# Altium footprint library 8ch_RGB_Controller.PcbLib: 16 footprints
Each footprint in its own frame and in the unit in brackets; x right, y up, seen from the top. Pads: shape width x height; smd on the part's side, far side on the other; paste and mask are expansions set on the pad; w line width, h text height; cw(c..) or ccw(c..) is an arc to the next point about the centre after c.
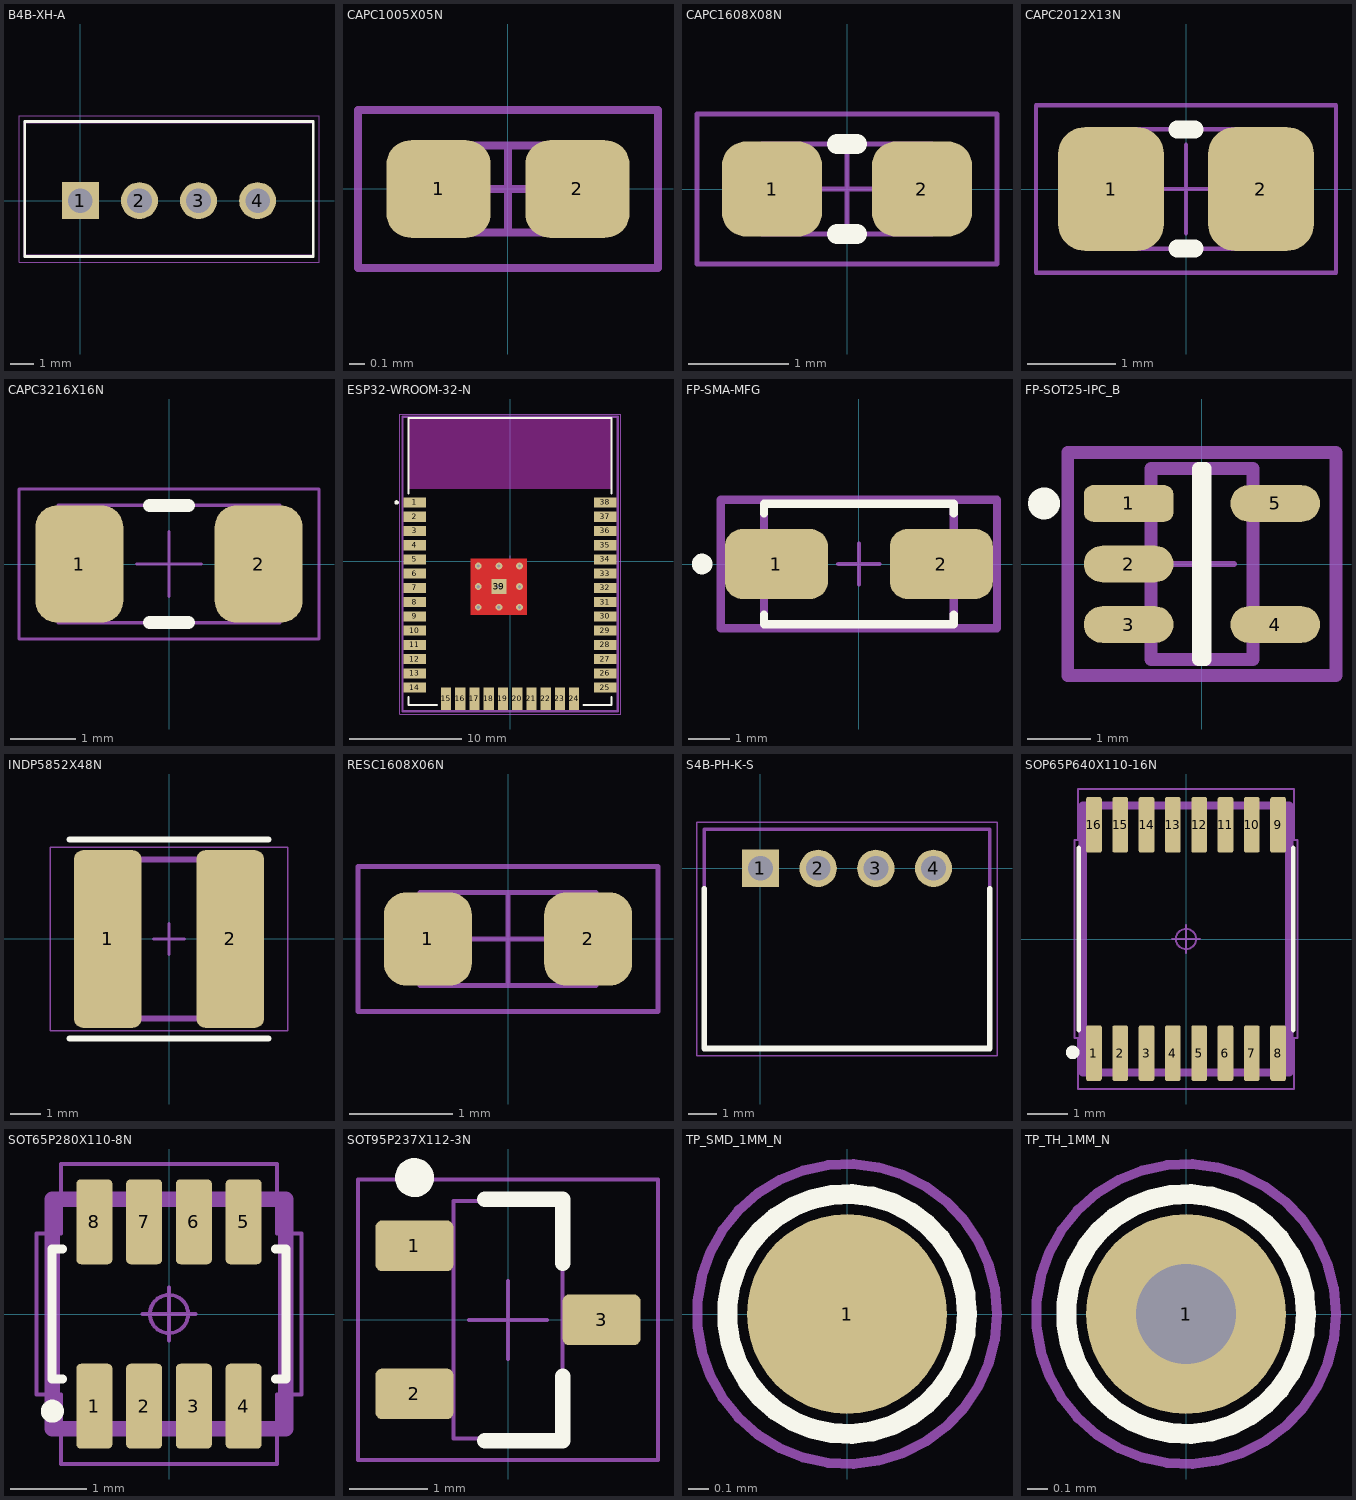
[diagram p0: the footprints below, top view; thin cyan lines are the x and y axes]

## B4B-XH-A [mm] "Header, Vertical Shrouded, 2.54 mm pitch; 0.64 mm lead width, 4 pins, 1 row, 4 pins per row, 12.40 mm L X 5.75 mm W X 7.00 mm H body"
height 7
pads (4):
  rect 1.59x1.59 / inner round 1.59 / far side rect 1.59x1.59 hole 1.06: 1(0,0)
  round 1.59 hole 1.06 paste-2539.97: 2(2.54,0) 3(5.08,0) 4(7.62,0)
Top Overlay:
  lines w0.12: -2.39,-2.4 10.01,-2.4 10.01,3.4 -2.39,3.4 -2.39,-2.4
Top 3D Body:
  lines w0.1: -2.4,-2.375 10,-2.375 10,3.375 -2.4,3.375 -2.4,-2.375
Top Courtyard:
  circle w0.05: c0,0 r0.25
  lines w0.05: -0.35,0 0.35,0 ; 0,-0.35 0,0.35 ; -2.64,-2.65 10.26,-2.65 10.26,3.65 -2.64,3.65 -2.64,-2.65
3D body "B4B-XH-A.STEP": height 7, standoff -3.4, extent -2.4,-2.375 10,3.375

## CAPC1005X05N [mm] "Chip Capacitor, 2-Leads, Body 1.00x0.50mm, IPC Medium Density"
height 0.55
pads (2):
  rrect50% 0.66x0.62 smd: 1(-0.44,0) 2(0.44,0)
Top 3D Body:
  lines w0.05: -0.525,-0.275 -0.525,0.275 0.525,0.275 0.525,-0.275 -0.525,-0.275
Top Courtyard:
  lines w0.05: -0.275,0 0.275,0 ; 0,-0.275 0,0.275 ; -0.95,-0.5 -0.95,0.5 0.95,0.5 0.95,-0.5 -0.95,-0.5
3D body "CAPC1005X06N.step": height 0.6, standoff 0, extent -0.55,-0.3 0.55,0.3

## CAPC1608X08N [mm] "Chip Capacitor, 2-Leads, Body 1.60x0.80mm, IPC Medium Density"
height 0.9
pads (2):
  rrect50% 1x0.95 smd: 1(-0.75,0) 2(0.75,0)
Top Overlay:
  lines w0.2: -0.1,-0.45 0.1,-0.45 ; -0.1,0.45 0.1,0.45
Top 3D Body:
  lines w0.05: -0.85,-0.45 0.85,-0.45 0.85,0.45 -0.85,0.45 -0.85,-0.45
Top Courtyard:
  lines w0.05: -0.45,0 0.45,0 ; 0,-0.45 0,0.45 ; -1.5,-0.75 1.5,-0.75 1.5,0.75 -1.5,0.75 -1.5,-0.75
3D body "CAPC1608X09N.step": height 0.9, standoff 0, extent -0.85,-0.45 0.85,0.45

## CAPC2012X13N [mm] "Chip Capacitor, 2-Leads, Body 2.00x1.25mm, IPC Medium Density"
height 1.35
pads (2):
  rrect50% 1.2x1.4 smd: 1(-0.85,0) 2(0.85,0)
Top Overlay:
  lines w0.2: -0.1,-0.675 0.1,-0.675 ; -0.1,0.675 0.1,0.675
Top 3D Body:
  lines w0.05: -1.05,-0.675 1.05,-0.675 1.05,0.675 -1.05,0.675 -1.05,-0.675
Top Courtyard:
  lines w0.05: -0.5,0 0.5,0 ; 0,-0.5 0,0.5 ; -1.7,-0.95 1.7,-0.95 1.7,0.95 -1.7,0.95 -1.7,-0.95
3D body "CAPC2012X14N.step": height 1.35, standoff 0, extent -1.05,-0.675 1.05,0.675

## CAPC3216X16N [mm] "Chip Capacitor, 2-Leads, Body 3.20x1.60mm, IPC Medium Density"
height 1.8
pads (2):
  rrect50% 1.35x1.8 smd: 1(-1.375,0) 2(1.375,0)
Top Overlay:
  lines w0.2: -0.3,-0.9 0.3,-0.9 ; -0.3,0.9 0.3,0.9
Top 3D Body:
  lines w0.05: -1.7,-0.9 -1.7,0.9 1.7,0.9 1.7,-0.9 -1.7,-0.9
Top Courtyard:
  lines w0.05: -0.5,0 0.5,0 ; 0,-0.5 0,0.5 ; -2.3,-1.15 -2.3,1.15 2.3,1.15 2.3,-1.15 -2.3,-1.15
3D body "CAPC3216X16N.step": height 1.8, standoff 0, extent -1.7,-0.9 1.7,0.9

## ESP32-WROOM-32-N [mm] "ESP32-WROOM-32-N"
pads (39):
  rect 2x0.9 smd paste+0 mask+0: 1(-8.5,5.26) 2(-8.5,3.99) 3(-8.5,2.72) 4(-8.5,1.45) 5(-8.5,0.18) 6(-8.5,-1.09) 7(-8.5,-2.36) 8(-8.5,-3.63) 9(-8.5,-4.9) 10(-8.5,-6.17) 11(-8.5,-7.44) 12(-8.5,-8.71) 13(-8.5,-9.98) 14(-8.5,-11.25) 25(8.5,-11.25) 26(8.5,-9.98) 27(8.5,-8.71) 28(8.5,-7.44) 29(8.5,-6.17) 30(8.5,-4.9) 31(8.5,-3.63) 32(8.5,-2.36) 33(8.5,-1.09) 34(8.5,0.18) 35(8.5,1.45) 36(8.5,2.72) 37(8.5,3.99) 38(8.5,5.26)
  rect 0.9x2 smd paste+0 mask+0: 15(-5.715,-12.25) 16(-4.445,-12.25) 17(-3.175,-12.25) 18(-1.905,-12.25) 19(-0.635,-12.25) 20(0.635,-12.25) 21(1.905,-12.25) 22(3.175,-12.25) 23(4.445,-12.25) 24(5.715,-12.25)
  rect 1.33x1.33 smd paste-1 mask-1: 39(-1,-2.24)
via -2.835,-0.405 diameter 0.6 hole 0.3
via -1,-0.405 diameter 0.6 hole 0.3
via 0.835,-0.405 diameter 0.6 hole 0.3
via -2.835,-2.24 diameter 0.6 hole 0.3
via -1,-2.24 diameter 0.6 hole 0.3
via 0.835,-2.24 diameter 0.6 hole 0.3
via -2.835,-4.075 diameter 0.6 hole 0.3
via -1,-4.075 diameter 0.6 hole 0.3
via 0.835,-4.075 diameter 0.6 hole 0.3
Top Layer:
  region: -3.5,-4.74 -3.5,0.26 1.5,0.26 1.5,-4.74
Top Overlay:
  circle w0.2: c-10.125,5.26 r0.1
  lines w0.2: -9.05,-12.075 -9.05,-12.8 -6.54,-12.8 ; -9.05,6.085 -9.05,12.8 9.05,12.8 9.05,6.085 ; 6.54,-12.8 9.05,-12.8 9.05,-12.075
Top Paste:
  region: 0.17,-1.575 1.5,-1.575 1.5,-2.905 0.17,-2.905
  region: -1.665,-1.575 -0.335,-1.575 -0.335,-2.905 -1.665,-2.905
  region: -1.665,0.26 -0.335,0.26 -0.335,-1.07 -1.665,-1.07
  region: -3.5,0.26 -2.17,0.26 -2.17,-1.07 -3.5,-1.07
  region: -3.5,-1.575 -2.17,-1.575 -2.17,-2.905 -3.5,-2.905
  region: -1.665,-3.41 -0.335,-3.41 -0.335,-4.74 -1.665,-4.74
  region: 0.17,0.26 1.5,0.26 1.5,-1.07 0.17,-1.07
  region: -3.5,-3.41 -2.17,-3.41 -2.17,-4.74 -3.5,-4.74
  region: 0.17,-3.41 1.5,-3.41 1.5,-4.74 0.17,-4.74
Top Solder:
  region: -1.665,-1.575 -0.335,-1.575 -0.335,-2.905 -1.665,-2.905
  region: 0.17,-1.575 1.5,-1.575 1.5,-2.905 0.17,-2.905
  region: -3.5,-3.41 -2.17,-3.41 -2.17,-4.74 -3.5,-4.74
  region: -1.665,-3.41 -0.335,-3.41 -0.335,-4.74 -1.665,-4.74
  region: 0.17,0.26 1.5,0.26 1.5,-1.07 0.17,-1.07
  region: -1.665,0.26 -0.335,0.26 -0.335,-1.07 -1.665,-1.07
  region: -3.5,0.26 -2.17,0.26 -2.17,-1.07 -3.5,-1.07
  region: -3.5,-1.575 -2.17,-1.575 -2.17,-2.905 -3.5,-2.905
  region: 0.17,-3.41 1.5,-3.41 1.5,-4.74 0.17,-4.74
Keep-Out Layer:
  rectangle: -9,6.45 9,12.75
Top 3D Body:
  lines w0.2: -9.6,-13.35 -9.6,12.9 9.6,12.9 9.6,-13.35 -9.6,-13.35
Top Courtyard:
  lines w0.05: -0.5,0 0.5,0 ; 0,-0.5 0,0.5 ; -9.85,-13.6 9.85,-13.6 9.85,13.15 -9.85,13.15 -9.85,-13.6
3D body "UNK_Espressif_Systems_ESP32-WROOM-32_eec.STEP": height 0.25, standoff 0, extent -9.6,-13.35 9.6,12.9

## FP-SMA-MFG [mm]
pads (2):
  rrect50% 2.5x1.7 smd paste+0 mask+0: 1(-2,0) 2(2,0)
Top Overlay:
  circle w0.25: c-3.8,0 r0.125
  lines w0.2: -2.3,-1.225 -2.3,-1.46 2.3,-1.46 2.3,-1.225 ; -2.3,1.225 -2.3,1.46 2.3,1.46 2.3,1.225
Top Assembly:
  lines w0.2: -3.35,-1.56 -3.35,1.56 3.35,1.56 3.35,-1.56 -3.35,-1.56
  text ".Designator" at 0,0.188 h1
Top 3D Body:
  lines w0.2: -2.3,-1.46 -2.3,1.46 2.3,1.46 2.3,-1.46 -2.3,-1.46
Top Courtyard:
  lines w0.2: -3.35,-1.56 -3.35,1.56 3.35,1.56 3.35,-1.56 -3.35,-1.56
Top Component Center:
  lines w0.1: -0.5,0 0.5,0 ; 0,-0.5 0,0.5
3D body "Diode_Diodes_Inc_SBRT5A50SA-13_eec.STEP": height 0.25, standoff 0, extent -3.35,-1.56 3.35,1.56

## FP-SOT25-IPC_B [mm]
pads (5):
  rrect50% 1.407x0.576 smd paste+0 mask+0: 1(-1.151,0.95)
  rrect100% 1.407x0.576 smd paste+0 mask+0: 2(-1.151,0) 3(-1.151,-0.95) 4(1.151,-0.95) 5(1.151,0.95)
Top Overlay:
  circle w0.25: c-2.479,0.95 r0.125
  lines w0.2: -0.053,-1.5 -0.053,1.5 0.053,1.5 0.053,-1.5 -0.053,-1.5
Top Assembly:
  lines w0.2: -2.104,-1.75 2.104,-1.75 2.104,1.75 -2.104,1.75 -2.104,-1.75
  text ".Designator" at 0,0.188 h1
Top 3D Body:
  lines w0.2: -0.8,-1.5 0.8,-1.5 0.8,1.5 -0.8,1.5 -0.8,-1.5
Top Courtyard:
  lines w0.2: -2.104,-1.75 2.104,-1.75 2.104,1.75 -2.104,1.75 -2.104,-1.75
Top Component Center:
  lines w0.1: -0.5,0 0.5,0 ; 0,-0.5 0,0.5
3D body "IC_Diodes_Inc_AP2127K-3_3TRG1_eec.STEP": height 0.25, standoff 0, extent -2.104,-1.75 2.104,1.75

## INDP5852X48N [mm] "Precision Wire Wound Inductor, 2-Leads, Body 5,80x5,20mm, IPC Medium Density"
height 4.8
pads (2):
  rrect25% 2.2x5.8 smd: 1(-2,0) 2(2,0)
Top Overlay:
  lines w0.2: -3.25,-3.25 3.25,-3.25 ; -3.25,3.25 3.25,3.25
Top 3D Body:
  lines w0.2: -2.958,-2.6 -2.958,2.6 2.958,2.6 2.958,-2.6 -2.958,-2.6
Top Courtyard:
  lines w0.05: -3.875,-3 -3.875,3 3.875,3 3.875,-3 -3.875,-3
  lines w0.1: -0.5,0 0.5,0 ; 0,-0.5 0,0.5
3D body "CD54.step": height 4.5, standoff 0, extent -2.958,-2.6 2.958,2.6

## RESC1608X06N [mm] "Chip Resistor, 2-Leads, Body 1,60x0,80mm, IPC Medium Density"
height 0.55
pads (2):
  rrect50% 0.85x0.9 smd: 1(-0.775,0) 2(0.775,0)
Top 3D Body:
  lines w0.05: -0.85,-0.45 -0.85,0.45 0.85,0.45 0.85,-0.45 -0.85,-0.45
Top Courtyard:
  lines w0.05: -0.45,0 0.45,0 ; 0,-0.45 0,0.45 ; -1.45,-0.7 -1.45,0.7 1.45,0.7 1.45,-0.7 -1.45,-0.7
3D body "RESC1608X06N.step": height 0.55, standoff 0, extent -0.85,-0.45 0.85,0.45

## S4B-PH-K-S [mm] "Header, Right Angle Shrouded, 2.00 mm pitch; 0.50 mm lead width, 4 pins, 1 row, 4 pins per row, 9.90 mm L X 7.60 mm W X 4.80 mm H body"
height 4.8
pads (4):
  rect 1.29x1.29 / inner round 1.29 / far side rect 1.29x1.29 hole 0.86 paste-2539.97: 1(0,0)
  round 1.29 hole 0.86 paste-2539.97: 2(2,0) 3(4,0) 4(6,0)
Top Overlay:
  lines w0.2: -1.95,-0.71 -1.95,-6.25 7.95,-6.25 7.95,-0.71
Top 3D Body:
  lines w0.12: -1.95,-6.25 7.95,-6.25 7.95,1.35 -1.95,1.35 -1.95,-6.25
Top Courtyard:
  circle w0.05: c0,0 r0.25
  lines w0.05: -0.35,0 0.35,0 ; 0,-0.35 0,0.35 ; -2.2,-6.5 8.2,-6.5 8.2,1.6 -2.2,1.6 -2.2,-6.5
3D body "S4B-PH-K-S.STEP": height 4.8, standoff -3.4, extent -1.95,-6.25 7.95,1.35

## SOP65P640X110-16N [mm] "Small Outline Pkg (SOP), 0.65 mm pitch; 16 pin, 5.00 mm L X 4.40 mm W X 1.10 mm H body"
height 1.1
pads (16):
  rrect25% 0.39x1.37 smd: 1(-2.275,-2.82) 2(-1.625,-2.82) 3(-0.975,-2.82) 4(-0.325,-2.82) 5(0.325,-2.82) 6(0.975,-2.82) 7(1.625,-2.82) 8(2.275,-2.82) 9(2.275,2.82) 10(1.625,2.82) 11(0.975,2.82) 12(0.325,2.82) 13(-0.325,2.82) 14(-0.975,2.82) 15(-1.625,2.82) 16(-2.275,2.82)
Top Overlay:
  circle w0.2: c-2.8,-2.8 r0.068
  lines w0.12: -2.65,-2.25 -2.65,2.25 ; 2.65,-2.25 2.65,2.25
Top 3D Body:
  lines w0.2: -2.55,-3.3 2.55,-3.3 2.55,3.3 -2.55,3.3 -2.55,-3.3
Top Courtyard:
  circle w0.05: c0,0 r0.25
  lines w0.05: -0.35,0 0.35,0 ; 0,-0.35 0,0.35 ; -2.75,-2.45 -2.67,-2.45 -2.67,-3.705 2.67,-3.705 2.67,-2.45 2.75,-2.45 2.75,2.45 2.67,2.45 2.67,3.705 -2.67,3.705 -2.67,2.45 -2.75,2.45 -2.75,-2.45
3D body "SOP65P640X110-16.STEP": height 1.1, standoff 0, extent -2.55,-3.3 2.55,3.3

## SOT65P280X110-8N [mm] "Small Outline Transistor (SOT23), 0.65 mm pitch; 8 pin, 2.90 mm L X 1.60 mm W X 1.10 mm H body"
height 1.1
pads (8):
  rrect25% 0.47x1.11 smd: 1(-0.975,-1.205) 2(-0.325,-1.205) 3(0.325,-1.205) 4(0.975,-1.205) 5(0.975,1.205) 6(0.325,1.205) 7(-0.325,1.205) 8(-0.975,1.205)
Top Overlay:
  circle w0.2: c-1.524,-1.27 r0.05
  lines w0.12: -1.39,-0.85 -1.53,-0.85 -1.53,0.85 -1.39,0.85 ; 1.39,-0.85 1.53,-0.85 1.53,0.85 1.39,0.85
Top 3D Body:
  lines w0.2: -1.525,-1.5 -1.525,1.5 1.525,1.5 1.525,-1.5 -1.525,-1.5
Top Courtyard:
  circle w0.05: c0,0 r0.25
  lines w0.05: -0.35,0 0.35,0 ; 0,-0.35 0,0.35 ; -1.73,-1.05 -1.41,-1.05 -1.41,-1.96 1.41,-1.96 1.41,-1.05 1.73,-1.05 1.73,1.05 1.41,1.05 1.41,1.96 -1.41,1.96 -1.41,1.05 -1.73,1.05 -1.73,-1.05
3D body "SOT65P280X110-8.STEP": height 1.1, standoff 0, extent -1.525,-1.5 1.525,1.5

## SOT95P237X112-3N [mm] "SOT23, 3-Leads, Body 2,93x2,37mm, Pitch 0,95mm, IPC Medium Density"
height 1.12
pads (3):
  rrect25% 1x0.65 smd: 1(-1.2,0.95) 2(-1.2,-0.95) 3(1.2,0)
Top Overlay:
  circle w0.25: c-1.2,1.825 r0.125
  lines w0.2: -0.3,-1.55 0.7,-1.55 0.7,-0.725 ; -0.3,1.55 0.7,1.55 0.7,0.725
Top 3D Body:
  lines w0.05: -0.7,-1.525 -0.7,1.525 0.7,1.525 0.7,-1.525 -0.7,-1.525
Top Courtyard:
  lines w0.05: -0.5,0 0.5,0 ; 0,-0.5 0,0.5 ; -1.925,-1.8 -1.925,1.8 1.925,1.8 1.925,-1.8 -1.925,-1.8
3D body "SOT95P237X112-3N.step": height 1.12, standoff 0, extent -1.32,-1.525 1.32,1.525

## TP_SMD_1MM_N [mm] "TP_SMD_1MM"
pads (1):
  round 1 smd paste-10 mask+0.05: 1(0,0)
Top Overlay:
  circle w0.1: c0,0 r0.6
Top Courtyard:
  circle w0.05: c0,0 r0.75

## TP_TH_1MM_N [mm] "TP_TH_1MM"
pads (1):
  round 1 hole 0.5 paste-2539.97 mask+0.05: 1(0,0)
Top Overlay:
  circle w0.1: c0,0 r0.6
Top Courtyard:
  circle w0.05: c0,0 r0.75